# Altium footprint library Synthiam-new.PcbLib: 262 footprints (part 10 of 17)
Each footprint in its own frame and in the unit in brackets; x right, y up, seen from the top. Pads: shape width x height; smd on the part's side, far side on the other; paste and mask are expansions set on the pad; w line width, h text height; cw(c..) or ccw(c..) is an arc to the next point about the centre after c.
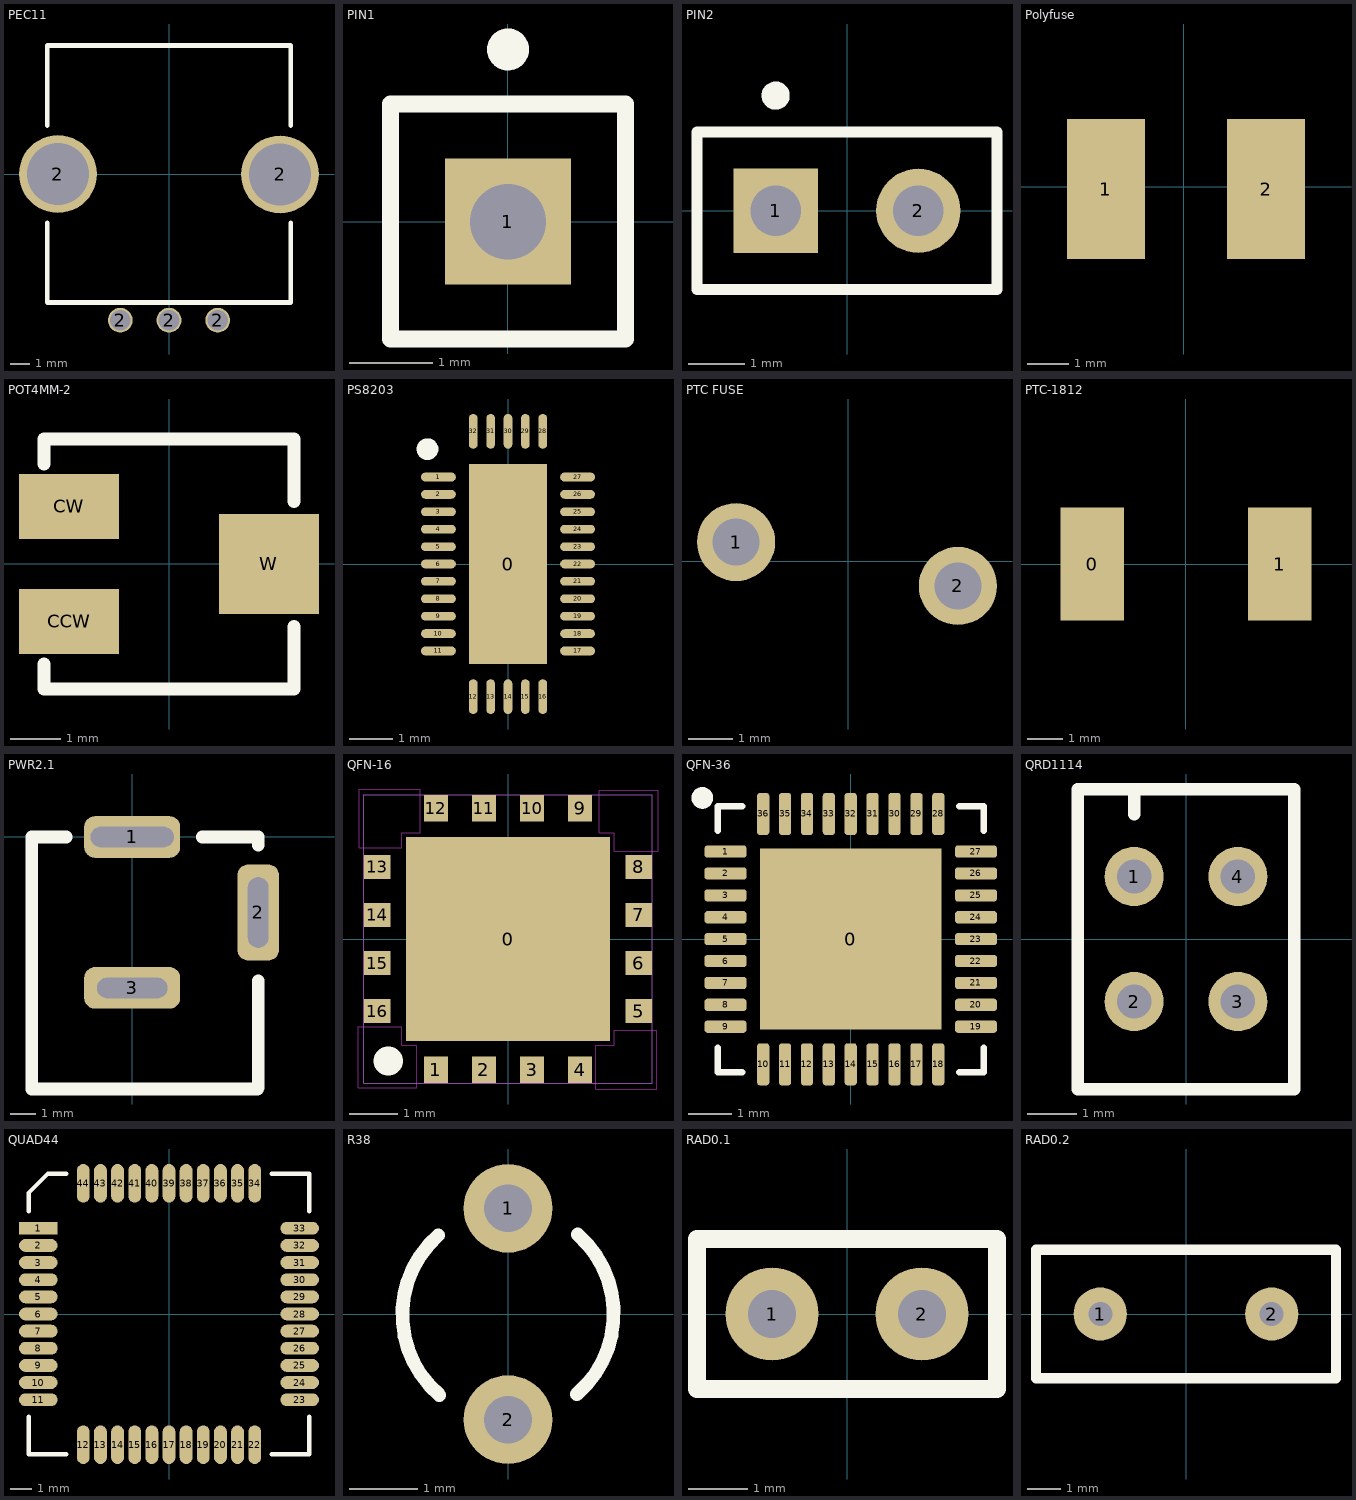
[diagram p9: the footprints below, top view; thin cyan lines are the x and y axes]

## PEC11 [mm]
pads (5):
  round 4 hole 3.175: 2(-5.7,0) 2(5.7,-0.02)
  round 1.27 hole 1.067: 2(-2.5,-7.5) 2(0,-7.5) 2(2.5,-7.5)
Top Overlay:
  lines w0.254: -6.25,-2.5 -6.25,-6.6 6.25,-6.6 6.25,-2.5 ; -6.25,2.5 -6.25,6.6 6.25,6.6 6.25,2.5

## PIN1 [mm]
pads (1):
  rect 1.5x1.5 hole 0.9: 1(0,0)
Top Overlay:
  circle w0.25: c0,2.05 r0.125
  lines w0.2: -1.4,-1.4 1.4,-1.4 1.4,1.4 -1.4,1.4 -1.4,-1.4

## PIN2 [mm]
pads (2):
  rect 1.5x1.5 hole 0.9: 1(-1.27,0)
  round 1.5 hole 0.9: 2(1.27,0)
Top Overlay:
  circle w0.25: c-1.27,2.05 r0.125
  lines w0.2: -2.67,-1.4 -2.67,1.4 2.67,1.4 2.67,-1.4 -2.67,-1.4

## Polyfuse [mm]
pads (2):
  rect 1.9x3.4 smd: 1(-1.901,-0.054) 2(1.999,-0.054)

## POT4MM-2 [mm]
pads (3):
  rect 2x1.3 smd: CCW(-2,-1.15) CW(-2,1.15)
  rect 2x2 smd: W(2,0)
Top Overlay:
  lines w0.254: -2.5,-2 -2.5,-2.5 2.5,-2.5 2.5,-1.25 ; -2.5,2 -2.5,2.5 2.5,2.5 2.5,1.25

## PS8203 [mm]
pads (33):
  rect 1.8x4.6 smd: 0(0,0)
  oval 0.8x0.2 smd mask+0.1: 1(-1.6,2) 2(-1.6,1.6) 3(-1.6,1.2) 4(-1.6,0.8) 5(-1.6,0.4) 6(-1.6,0) 7(-1.6,-0.4) 8(-1.6,-0.8) 9(-1.6,-1.2) 10(-1.6,-1.6) 11(-1.6,-2) 17(1.6,-2) 18(1.6,-1.6) 19(1.6,-1.2) 20(1.6,-0.8) 21(1.6,-0.4) 22(1.6,0) 23(1.6,0.4) 24(1.6,0.8) 25(1.6,1.2) 26(1.6,1.6) 27(1.6,2)
  oval 0.2x0.8 smd mask+0.1: 12(-0.8,-3.05) 13(-0.4,-3.05) 14(0,-3.05) 15(0.4,-3.05) 16(0.8,-3.05) 28(0.8,3.05) 29(0.4,3.05) 30(0,3.05) 31(-0.4,3.05) 32(-0.8,3.05)
Top Overlay:
  circle w0.25: c-1.852,2.642 r0.125

## PTC FUSE [mil]
pads (2):
  round 70 hole 42: 1(-100.39,17.32) 2(98.43,-22.05)

## PTC-1812 [mm]
pads (2):
  rect 1.78x3.15 smd: 0(-2.615,0) 1(2.615,0)

## PWR2.1 [mil]
pads (3):
  rrect50% 150x65 hole 32 slot 130 at 0 deg: 1(0,0)
  rrect50% 65x150 hole 32 slot 110 at 90 deg: 2(197,-118)
  rrect50% 150x65 hole 32 slot 110 at 0 deg: 3(0,-236)
Top Overlay:
  lines w20: -103,0 -157,0 -157,-394 196,-394 ; 109.5,0 197,0 197,-12.5 ; 197,-392 197,-225

## QFN-16 [mm]
pads (17):
  rect 4.25x4.25 smd paste-1.2: 0(0,0)
  rect 0.5x0.55 smd: 1(-1.5,-2.725) 2(-0.5,-2.725) 3(0.5,-2.725) 4(1.5,-2.725) 9(1.5,2.725) 10(0.5,2.725) 11(-0.5,2.725) 12(-1.5,2.725)
  rect 0.55x0.5 smd: 5(2.725,-1.5) 6(2.725,-0.5) 7(2.725,0.5) 8(2.725,1.5) 13(-2.725,1.5) 14(-2.725,0.5) 15(-2.725,-0.5) 16(-2.725,-1.5)
Top Overlay:
  lines w0.6: -2.499,-2.54 -2.489,-2.54
Keep-Out Layer:
  lines w0.025: -3.124,-3.099 -1.905,-3.099 -1.905,-2.21 -2.21,-2.21 -2.21,-1.829 -3.124,-1.829 -3.124,-3.099 ; -3.099,1.905 -2.21,1.905 -2.21,2.21 -1.829,2.21 -1.829,3.124 -3.099,3.124 -3.099,1.905 ; 1.829,-3.124 3.099,-3.124 3.099,-1.905 2.21,-1.905 2.21,-2.21 1.829,-2.21 1.829,-3.124 ; 1.905,2.21 2.21,2.21 2.21,1.829 3.124,1.829 3.124,3.099 1.905,3.099 1.905,2.21
Mechanical 1:
  lines w0.025: -3,-3 3,-3 3,3 -3,3 -3,-3

## QFN-36 [mil]
pads (37):
  rect 163.39x163.39 smd: 0(0,0)
  rrect50% 38x11.02 smd: 1(-113,79) 2(-113,59.25) 3(-113,39.5) 4(-113,19.75) 5(-113,0) 6(-113,-19.75) 7(-113,-39.5) 8(-113,-59.25) 9(-113,-79) 19(113,-79) 20(113,-59.25) 21(113,-39.5) 22(113,-19.75) 23(113,0) 24(113,19.75) 25(113,39.5) 26(113,59.25) 27(113,79)
  rrect50% 11.02x38 smd: 10(-79,-113) 11(-59.25,-113) 12(-39.5,-113) 13(-19.75,-113) 14(0,-113) 15(19.75,-113) 16(39.5,-113) 17(59.25,-113) 18(79,-113) 28(79,113) 29(59.25,113) 30(39.5,113) 31(19.75,113) 32(0,113) 33(-19.75,113) 34(-39.5,113) 35(-59.25,113) 36(-79,113)
Top Overlay:
  circle w10: c-133.94,127.44 r4.81
  lines w6: -120,-98 -120,-120 -98,-120 ; -120,98 -120,120 -98,120 ; 98,-120 120,-120 120,-98 ; 98,120 120,120 120,98

## QRD1114 [mm]
pads (4):
  round 1.2 hole 0.7: 1(-1.054,1.27) 2(-1.054,-1.27) 3(1.054,-1.27) 4(1.054,1.27)
Top Overlay:
  lines w0.254: -1.054,2.54 -1.054,3.048 ; -2.197,-3.048 2.197,-3.048 2.197,3.048 -2.197,3.048 -2.197,-3.048

## QUAD44 [mm]
pads (44):
  rect 1.8x0.6 smd: 1(-6.1,4)
  oval 1.8x0.6 smd: 2(-6.1,3.2) 3(-6.1,2.4) 4(-6.1,1.6) 5(-6.1,0.8) 6(-6.1,0) 7(-6.1,-0.8) 8(-6.1,-1.6) 9(-6.1,-2.4) 10(-6.1,-3.2) 11(-6.1,-4) 23(6.1,-4) 24(6.1,-3.2) 25(6.1,-2.4) 26(6.1,-1.6) 27(6.1,-0.8) 28(6.1,0) 29(6.1,0.8) 30(6.1,1.6) 31(6.1,2.4) 32(6.1,3.2) 33(6.1,4)
  oval 0.6x1.8 smd: 12(-4,-6.1) 13(-3.2,-6.1) 14(-2.4,-6.1) 15(-1.6,-6.1) 16(-0.8,-6.1) 17(0,-6.1) 18(0.8,-6.1) 19(1.6,-6.1) 20(2.4,-6.1) 21(3.2,-6.1) 22(4,-6.1) 34(4,6.1) 35(3.2,6.1) 36(2.4,6.1) 37(1.6,6.1) 38(0.8,6.1) 39(0,6.1) 40(-0.8,6.1) 41(-1.6,6.1) 42(-2.4,6.1) 43(-3.2,6.1) 44(-4,6.1)
Top Overlay:
  lines w0.2: -6.55,-4.8 -6.55,-6.55 -4.8,-6.55 ; -6.55,4.8 -6.55,5.65 -5.65,6.55 -4.8,6.55 ; 4.8,-6.55 6.55,-6.55 6.55,-4.8 ; 4.8,6.55 6.55,6.55 6.55,4.8

## R38 [mm]
pads (2):
  round 1.3 hole 0.7: 1(0,1.55) 2(0,-1.55)
Top Overlay:
  lines w0.2: -1.022,1.155 ccw(c0,-0.01) -1.006,-1.189 ; 1.006,-1.179 ccw(c0,0) 1.022,1.165

## RAD0.1 [mil]
pads (2):
  round 62 hole 32: 1(-50,0) 2(50,0)
Top Overlay:
  lines w12: -100,-50 100,-50 100,50 -100,50 -100,-50

## RAD0.2 [mil]
pads (2):
  round 62 hole 28: 1(-100,0) 2(100,0)
Top Overlay:
  lines w12: -175,-75 -175,75 175,75 175,-75 -175,-75